# EAGLE library part 691329300008 (library Wurth_Elektronik_Electromechanic_Terminal_Blocks_Connectors_rev16b)
WR-TBL Serie 3293 – 3.81mm Close Vertical Dual Row PCB Header, 8 Pins=>Code : Con_TBL_Pluggable_3.81_PCB_THT_Double_691329300008 <http://katalog.we-online.de/media/images/eican/Con_TBL_Pluggable_3.81_PCB_THT_Double_6913293000xx_pf2.jpg> Details see: http://katalog.we-online.de/en/em/691_329_300_0xx Created 2014-06-19, Karrer Zheng 2014 (C) Würth Elektronik
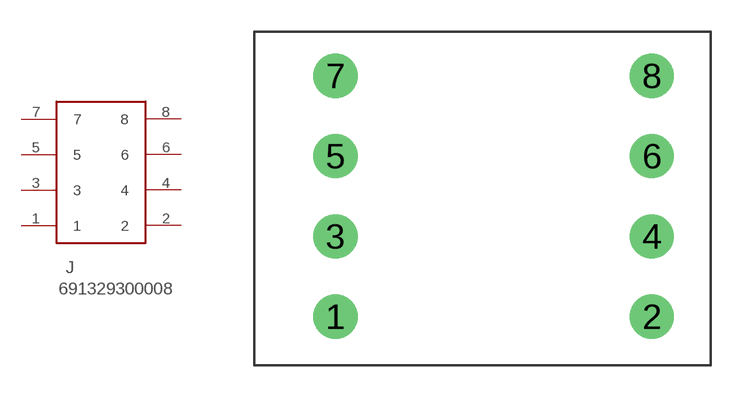
[diagram p395: symbol with the pads of 691329300008; footprint 691329300008]

Designator prefix J

## 691329300008  [691329300008]
1  1  pas
2  2  pas
3  3  pas
4  4  pas
5  5  pas
6  6  pas
7  7  pas
8  8  pas

## Footprint 691329300008 (pad centres in mm)
WR-TBL Serie 3293 – 3.81mm Close Vertical Dual Row PCB Header, 8 Pins
drill 1.4: 1 0,0; 2 15,0; 3 0,3.81; 4 15,3.81; 5 0,7.62; 6 15,7.62; 7 0,11.43; 8 15,11.43